# Altium schematic symbol library Omron Electronics.SchLib: 1 symbol
Pins are listed as number, name and electrical type; pins without a type are passive.

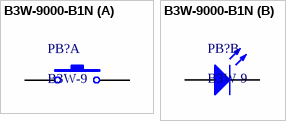
[diagram p0: symbol B3W-9000-B1N]

## B3W-9000-B1N
designator PB?, comment B3W-9
part A pins: 1, 2
part B pins: 3 A, 4 K